# Altium schematic symbol library ETD29_14PIN_CUSTOM3.Schlib: 1 symbol
Pins are listed as number, name and electrical type; pins without a type are passive.

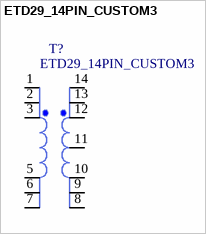
[diagram p0: symbol ETD29_14PIN_CUSTOM3]

## ETD29_14PIN_CUSTOM3
designator T?
pins: 1, 2, 3, 5, 6, 7, 8, 9, 10, 11, 12, 13, 14